# Altium footprint library ROV2019V2.0 .PcbLib: 22 footprints (part 1 of 2)
Each footprint in its own frame and in the unit in brackets; x right, y up, seen from the top. Pads: shape width x height; smd on the part's side, far side on the other; paste and mask are expansions set on the pad; w line width, h text height; cw(c..) or ccw(c..) is an arc to the next point about the centre after c.
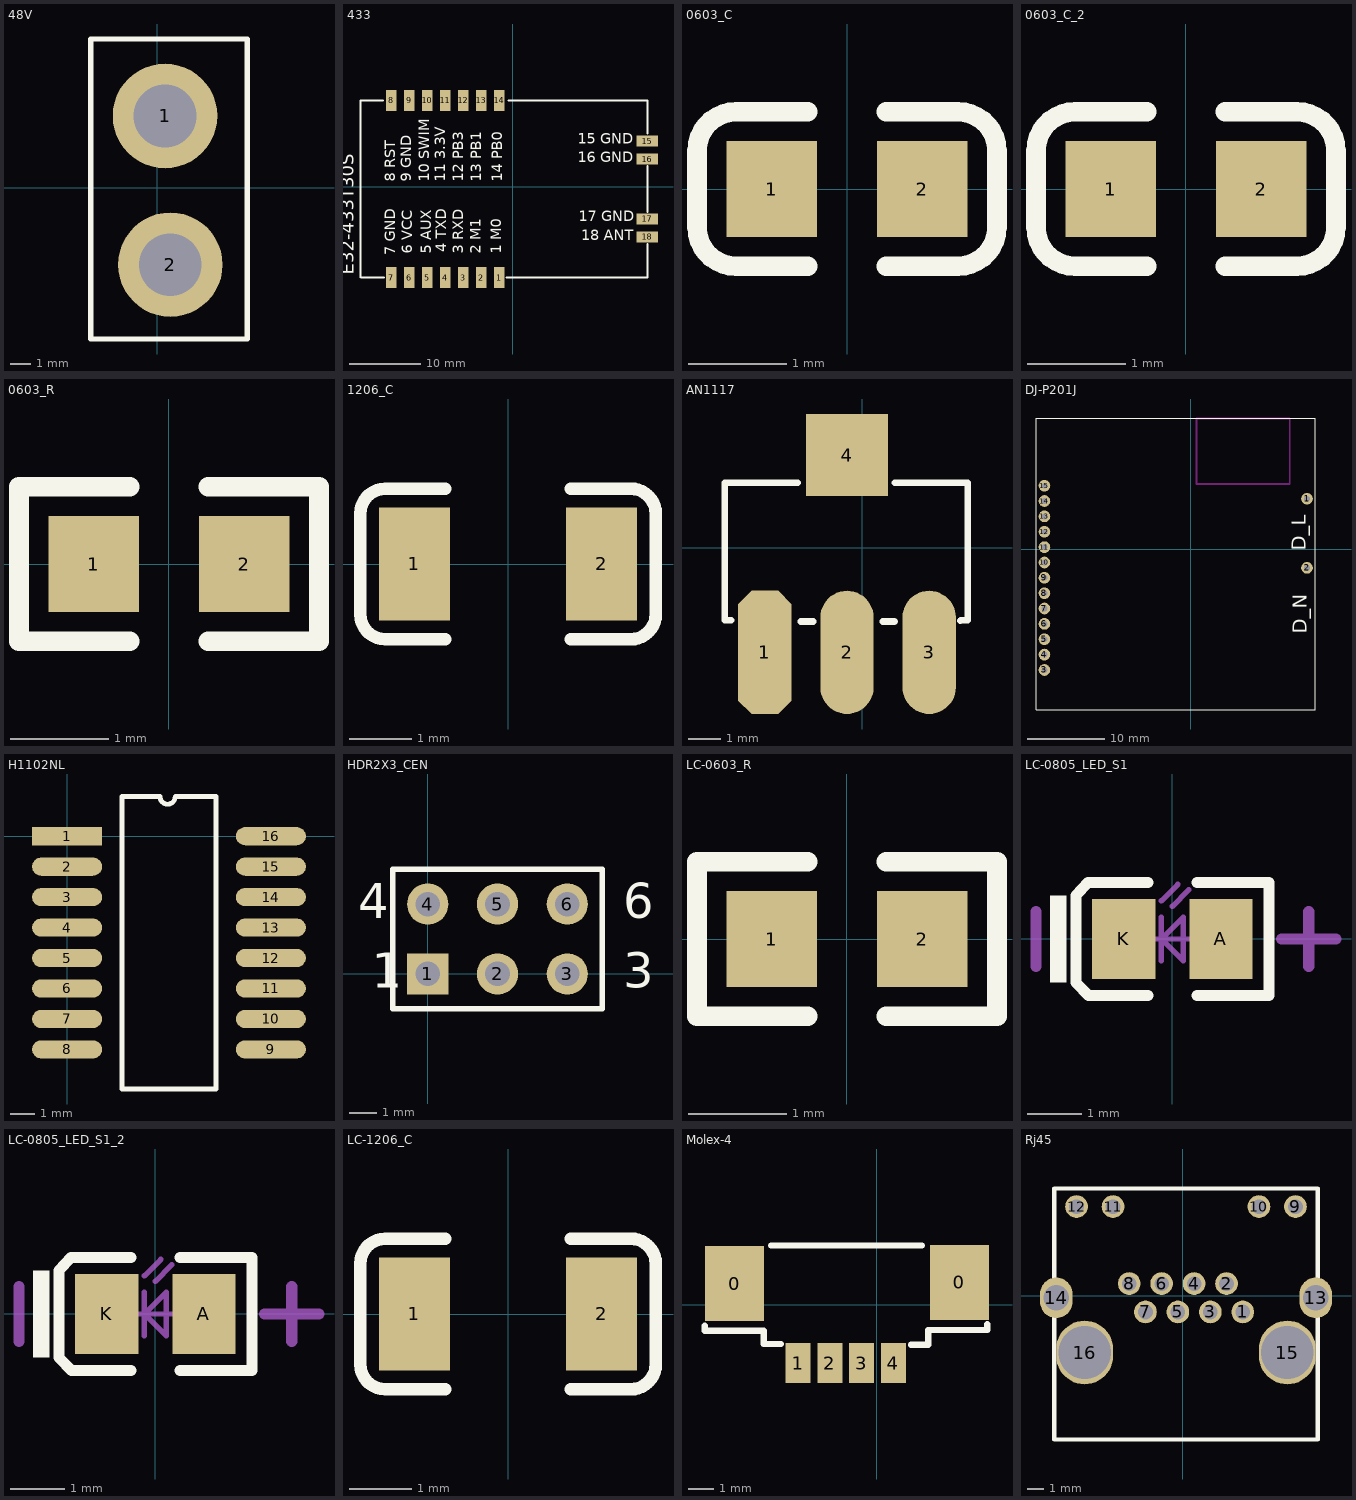
[diagram p0: the footprints below, top view; thin cyan lines are the x and y axes]

## 48V [mm]
pads (2):
  round 5 hole 3: 1(0.381,3.429) 2(0.635,-3.683)
Top Overlay:
  lines w0.254: -3.175,-7.239 -3.175,7.112 4.318,7.112 4.318,-7.239 -3.175,-7.239

## 433 [mm]
pads (18):
  rect 1.5x3 smd: 1(-1.905,-12.793) 2(-4.445,-12.793) 3(-6.985,-12.793) 4(-9.525,-12.793) 5(-12.065,-12.793) 6(-14.605,-12.793) 7(-17.145,-12.793) 8(-17.145,12.207) 9(-14.605,12.207) 10(-12.065,12.207) 11(-9.525,12.207) 12(-6.985,12.207) 13(-4.445,12.207) 14(-1.905,12.207)
  rect 3x1.5 smd: 15(18.975,6.477) 16(18.975,3.937) 17(18.975,-4.523) 18(18.975,-7.063)
Top Overlay:
  lines w0.254: -18.325,12.207 -21.5,12.207 -21.5,-12.718 -21.425,-12.793 -18.175,-12.793 ; -0.9,-12.793 18.95,-12.793 18.975,-12.768 18.975,-8.043 ; -0.6,12.207 18.95,12.207 18.975,12.182 18.975,7.507 ; 18.975,-3.543 18.975,2.957
  text "E32-433T30S" at -21.844,-12.407 h3.17
  text "14 PB0" at -1.016,0.762 h2.54
  text "13 PB1" at -3.937,0.762 h2.54
  text "12 PB3" at -6.477,0.762 h2.54
  text "11 3.3V" at -9.017,0.762 h2.54
  text "10 SWIM" at -11.303,0.762 h2.54
  text "9 GND" at -13.843,0.762 h2.54
  text "8 RST" at -16.129,0.762 h2.54
  text "6 VCC" at -13.716,-9.455 h2.54
  text "5 AUX" at -11.049,-9.394 h2.54
  text "4 TXD" at -8.89,-9.231 h2.54
  text "3 RXD" at -6.477,-9.412 h2.54
  text "2 M1" at -4.064,-9.415 h2.54
  text "1 M0" at -1.143,-9.412 h2.54
  text "18 ANT" at 9.652,-8.043 h2.54
  text "17 GND" at 9.271,-5.334 h2.54
  text "16 GND" at 9.144,2.957 h2.54
  text "15 GND" at 9.144,5.588 h2.54
  text "7 GND" at -16.129,-9.652 h2.54

## 0603_C [mm]
pads (2):
  rect 0.93x0.98 smd: 1(-0.77,0) 2(0.77,0)
Top Overlay:
  lines w0.2: -0.4,-0.79 -1.135,-0.79 cw(c-1.135,-0.39) -1.535,-0.39 -1.535,0.39 cw(c-1.135,0.39) -1.135,0.79 -0.4,0.79 ; 0.4,-0.79 1.135,-0.79 ccw(c1.135,-0.39) 1.535,-0.39 1.535,0.39 ccw(c1.135,0.39) 1.135,0.79 0.4,0.79
3D body "User Library-0603 SMD Capacitor.STEP": height 0.3, standoff 0, extent -0.8,-0.4 0.8,0.4

## 0603_C_2 [mm]
pads (2):
  rect 0.93x0.98 smd: 1(-0.77,0) 2(0.77,0)
Top Overlay:
  lines w0.2: -0.4,-0.79 -1.135,-0.79 cw(c-1.135,-0.39) -1.535,-0.39 -1.535,0.39 cw(c-1.135,0.39) -1.135,0.79 -0.4,0.79 ; 0.4,-0.79 1.135,-0.79 ccw(c1.135,-0.39) 1.535,-0.39 1.535,0.39 ccw(c1.135,0.39) 1.135,0.79 0.4,0.79
3D body "User Library-0603 SMD Capacitor.STEP": height 0.3, standoff 0, extent -0.8,-0.4 0.8,0.4

## 0603_R [mm]
pads (2):
  rect 0.93x0.98 smd: 1(-0.77,0) 2(0.77,0)
Top Overlay:
  lines w0.2: -0.4,-0.79 -1.535,-0.79 -1.535,0.79 -0.4,0.79 ; 0.4,-0.79 1.535,-0.79 1.535,0.79 0.4,0.79
3D body "User Library-RES_1609-0603.STEP": height 0.56, standoff 0, extent -0.85,-0.4 0.85,0.4

## 1206_C [mm]
pads (2):
  rect 1.13x1.8 smd: 1(-1.49,0) 2(1.49,0)
Top Overlay:
  lines w0.2: -1,-1.2 -1.955,-1.2 cw(c-1.955,-0.8) -2.355,-0.8 -2.355,0.8 cw(c-1.955,0.8) -1.955,1.2 -1,1.2 ; 1,-1.2 1.955,-1.2 ccw(c1.955,-0.8) 2.355,-0.8 2.355,0.8 ccw(c1.955,0.8) 1.955,1.2 1,1.2
3D body "C1206.STEP": height 1, standoff 0, extent -1.602,-0.813 1.598,0.787

## AN1117 [mil]
pads (4):
  oct 65x150 smd: 1(-118.75,-127.5)
  oval 65x150 smd: 2(-18.75,-127.5) 3(81.25,-127.5)
  rect 100x100 smd: 4(-18.75,112.5)
Top Overlay:
  lines w8: -159.42,-88.58 -167.32,-88.58 -167.32,78.74 -78.74,78.74 ; -75,-90 -60,-90 ; 25,-90 39,-90 ; 39.37,78.74 127.95,78.74 127.95,-88.58 119.42,-88.58 119,-89

## DJ-P201J [mil]
pads (15):
  round 60 hole 30: 1(596.69,259.68) 2(596.69,-94.65) 3(-749.76,-618.28) 4(-749.76,-539.54) 5(-749.76,-460.8) 6(-749.76,-382.06) 7(-749.76,-303.31) 8(-749.76,-224.57) 9(-749.76,-145.83) 10(-749.76,-67.09) 11(-749.76,11.65) 12(-749.76,90.39) 13(-749.76,169.13) 14(-749.76,247.87) 15(-749.76,326.61)
Top Overlay:
  lines w1: -793.07,-823 640,-823 640,673.06 -793.07,673.06 -793.07,-823
  text "D_L" at 615.24,-6.82 h125
  text "D_N" at 620.24,-433.39 h125
Keep-Out Layer:
  lines w10: 30,334.27 30,671 469,671 508,671 508,334.27 30,334.27

## H1102NL [mm]
pads (16):
  rect 2.92x0.76 smd: 1(0,0)
  oval 2.92x0.76 smd: 2(0,-1.27) 3(0,-2.54) 4(0,-3.81) 5(0,-5.08) 6(0,-6.35) 7(0,-7.62) 8(0,-8.89) 9(8.5,-8.89) 10(8.5,-7.62) 11(8.5,-6.35) 12(8.5,-5.08) 13(8.5,-3.81) 14(8.5,-2.54) 15(8.5,-1.27) 16(8.5,0)
Top Overlay:
  lines w0.2: 2.295,-10.541 2.295,1.651 3.873,1.651 ccw(c4.191,1.651) 4.508,1.651 6.205,1.651 6.205,-10.541 2.295,-10.541

## HDR2X3_CEN [mm]
pads (6):
  rect 1.5x1.5 hole 0.9: 1(0,0)
  round 1.5 hole 0.9: 2(2.54,0) 3(5.08,0) 4(0,2.54) 5(2.54,2.54) 6(5.08,2.54)
Top Overlay:
  lines w0.2: -1.27,-1.27 6.35,-1.27 6.35,3.81 -1.27,3.81 -1.27,-1.27
  text "6" at 7.112,2.032 h1.27
  text "3" at 7.112,-0.508 h1.27
  text "1" at -2.032,-0.508 h1.27
  text "4" at -2.54,2.032 h1.27

## LC-0603_R [mm]
pads (2):
  rect 0.93x0.98 smd: 1(-0.77,0) 2(0.77,0)
Top Overlay:
  lines w0.2: -0.4,-0.79 -1.535,-0.79 -1.535,0.79 -0.4,0.79 ; 0.4,-0.79 1.535,-0.79 1.535,0.79 0.4,0.79
3D body "User Library-RES_1609-0603.STEP": height 0.56, standoff 0, extent -0.85,-0.4 0.85,0.4

## LC-0805_LED_S1 [mm]
pads (2):
  rect 1.16x1.47 smd: A(0.89,0) K(-0.89,0)
Top Overlay:
  rectangle: -2.245,-0.8 -1.945,0.8
  lines w0.2: -0.45,-1.035 -1.535,-1.035 -1.77,-0.8 -1.77,0.8 -1.55,1.035 -0.45,1.035 ; 0.45,-1.035 1.77,-1.035 1.77,1.035 0.45,1.035
Mechanical 13:
  lines w0.1: -0.4,0 0.4,0 ; -0.2,-0.4 -0.2,0.4 ; -0.2,0.7 0.1,1 ; 0,0.6 0.3,0.9 ; -0.2,0 0.2,-0.4 0.2,0.4 -0.2,0
Mechanical 15:
  lines w0.203: -2.5,-0.5 -2.5,0.5 ; 2,0 3,0 ; 2.5,-0.5 2.5,0.5
3D body "User Library-led_0805.step": height 1.1, standoff 0, extent -1.01,-0.625 1.01,0.625

## LC-0805_LED_S1_2 [mm]
pads (2):
  rect 1.16x1.47 smd: A(0.89,0) K(-0.89,0)
Top Overlay:
  rectangle: -2.245,-0.8 -1.945,0.8
  lines w0.2: -0.45,-1.035 -1.535,-1.035 -1.77,-0.8 -1.77,0.8 -1.55,1.035 -0.45,1.035 ; 0.45,-1.035 1.77,-1.035 1.77,1.035 0.45,1.035
Mechanical 13:
  lines w0.1: -0.4,0 0.4,0 ; -0.2,-0.4 -0.2,0.4 ; -0.2,0.7 0.1,1 ; 0,0.6 0.3,0.9 ; -0.2,0 0.2,0.4 0.2,-0.4 -0.2,0
Mechanical 15:
  lines w0.203: -2.5,-0.5 -2.5,0.5 ; 2,0 3,0 ; 2.5,-0.5 2.5,0.5
3D body "User Library-led_0805.step": height 1.1, standoff 0, extent -1.01,-0.625 1.01,0.625

## LC-1206_C [mm]
pads (2):
  rect 1.13x1.8 smd: 1(-1.49,0) 2(1.49,0)
Top Overlay:
  lines w0.2: -1,-1.2 -1.955,-1.2 cw(c-1.955,-0.8) -2.355,-0.8 -2.355,0.8 cw(c-1.955,0.8) -1.955,1.2 -1,1.2 ; 1,-1.2 1.955,-1.2 ccw(c1.955,-0.8) 2.355,-0.8 2.355,0.8 ccw(c1.955,0.8) 1.955,1.2 1,1.2
3D body "C1206.STEP": height 1, standoff 0, extent -1.602,-0.813 1.598,0.787

## Molex-4 [mm]
pads (6):
  rect 2.35x3 smd: 0(-5.687,0.852) 0(3.3,0.901)
  rect 1x1.6 smd: 1(-3.147,-2.323) 2(-1.877,-2.323) 3(-0.607,-2.323) 4(0.663,-2.323)
Top Overlay:
  lines w0.254: -6.881,-0.825 -6.881,-1.028 -4.519,-1.028 -4.519,-1.561 -3.833,-1.561 ; -4.214,2.376 1.799,2.376 ; 1.363,-1.583 2.049,-1.583 2.049,-0.999 4.411,-0.999 4.411,-0.77

## Rj45 [mil]
pads (16):
  round 56 hole 36: 1(148,-40) 2(108,30) 3(68,-40) 4(28,30) 5(-12,-40) 6(-52,30) 7(-92,-40) 8(-132,30) 9(278,220) 10(188,220) 11(-172,220) 12(-262,220)
  oval 80x100 hole 63: 13(328,-5) 14(-312,-5)
  oval 140x157.48 hole 130: 15(258,-140) 16(-242,-140)
Top Overlay:
  lines w10: -317,-355 333,-355 333,265 -317,265 -317,-355